# EAGLE library part 4PDT (library switches)
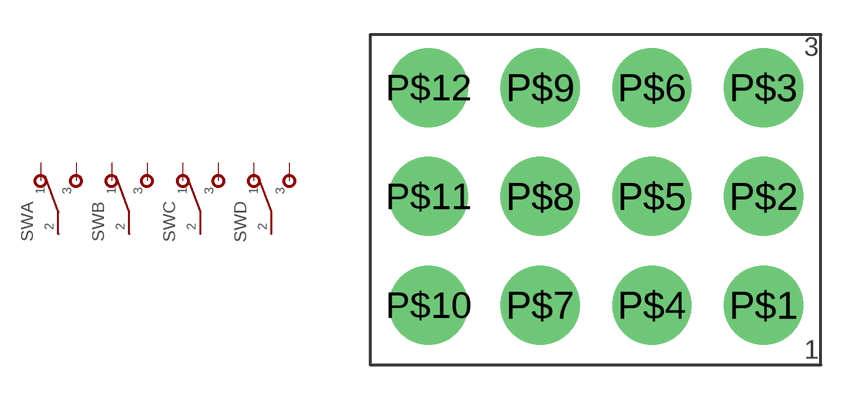
[diagram p6: symbol with the pads of 4PDT; footprint 4PDT]

Designator prefix SW; gates A=SPDT B=SPDT C=SPDT D=SPDT

## 4PDT  [4PDT]
P$1  A:1  pas
P$2  A:2  pas
P$3  A:3  pas
P$4  B:1  pas
P$5  B:2  pas
P$6  B:3  pas
P$7  C:1  pas
P$8  C:2  pas
P$9  C:3  pas
P$10  D:1  pas
P$11  D:2  pas
P$12  D:3  pas

## Footprint 4PDT (pad centres in mm)
drill 2.4: P$1 7.26,-4.66; P$2 7.26,0.039; P$3 7.26,4.738; P$4 2.434,-4.66; P$5 2.434,0.039; P$6 2.434,4.738; P$7 -2.392,-4.66; P$8 -2.392,0.039; P$9 -2.392,4.738; P$10 -7.218,-4.66; P$11 -7.218,0.039; P$12 -7.218,4.738